# EAGLE library part SCM20100E (library sitcore)
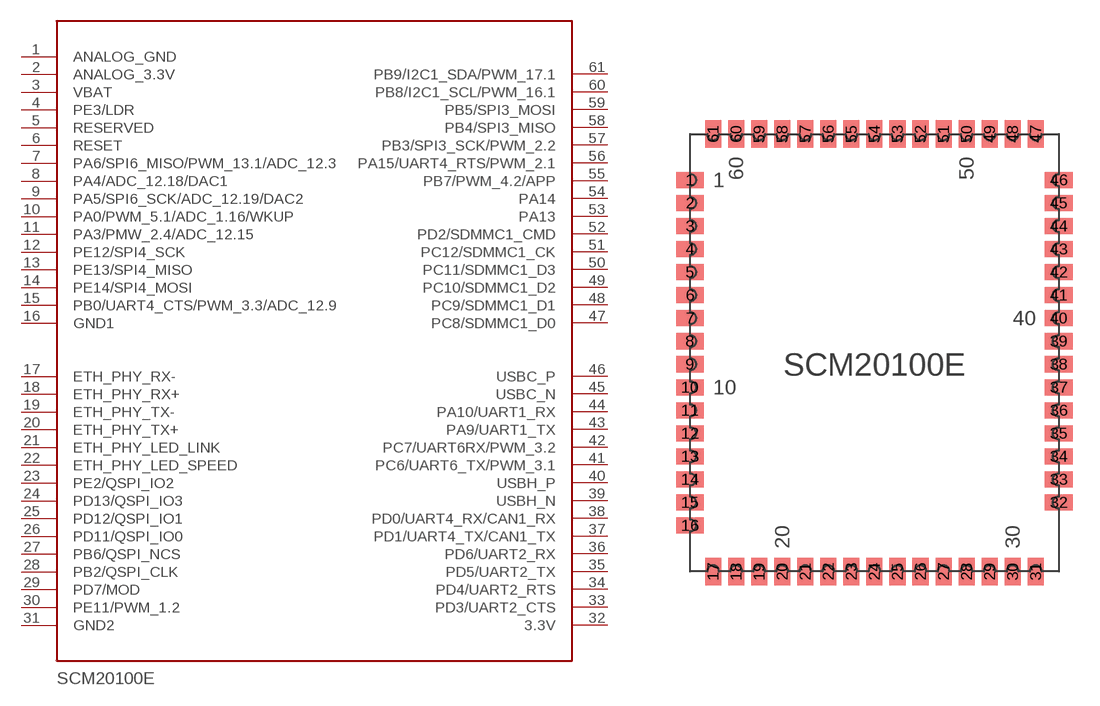
[diagram p0: symbol with the pads of SCM20100E; footprint SCM20100E]

Designator prefix -

## SCM20100E  [SCM20100E]
1  ANALOG_GND
2  ANALOG_3.3V
3  VBAT
4  PE3/LDR
5  RESERVED
6  RESET
7  PA6/SPI6_MISO/PWM_13.1/ADC_12.3
8  PA4/ADC_12.18/DAC1
9  PA5/SPI6_SCK/ADC_12.19/DAC2
10  PA0/PWM_5.1/ADC_1.16/WKUP
11  PA3/PMW_2.4/ADC_12.15
12  PE12/SPI4_SCK
13  PE13/SPI4_MISO
14  PE14/SPI4_MOSI
15  PB0/UART4_CTS/PWM_3.3/ADC_12.9
16  GND1
17  ETH_PHY_RX-
18  ETH_PHY_RX+
19  ETH_PHY_TX-
20  ETH_PHY_TX+
21  ETH_PHY_LED_LINK
22  ETH_PHY_LED_SPEED
23  PE2/QSPI_IO2
24  PD13/QSPI_IO3
25  PD12/QSPI_IO1
26  PD11/QSPI_IO0
27  PB6/QSPI_NCS
28  PB2/QSPI_CLK
29  PD7/MOD
30  PE11/PWM_1.2
31  GND2
32  3.3V
33  PD3/UART2_CTS
34  PD4/UART2_RTS
35  PD5/UART2_TX
36  PD6/UART2_RX
37  PD1/UART4_TX/CAN1_TX
38  PD0/UART4_RX/CAN1_RX
39  USBH_N
40  USBH_P
41  PC6/UART6_TX/PWM_3.1
42  PC7/UART6RX/PWM_3.2
43  PA9/UART1_TX
44  PA10/UART1_RX
45  USBC_N
46  USBC_P
47  PC8/SDMMC1_D0
48  PC9/SDMMC1_D1
49  PC10/SDMMC1_D2
50  PC11/SDMMC1_D3
51  PC12/SDMMC1_CK
52  PD2/SDMMC1_CMD
53  PA13
54  PA14
55  PB7/PWM_4.2/APP
56  PA15/UART4_RTS/PWM_2.1
57  PB3/SPI3_SCK/PWM_2.2
58  PB4/SPI3_MISO
59  PB5/SPI3_MOSI
60  PB8/I2C1_SCL/PWM_16.1
61  PB9/I2C1_SDA/PWM_17.1

## Footprint SCM20100E (pad centres in mm)
smd 1.524 x 0.889: 1 -10.16,10.16; 2 -10.16,8.89; 3 -10.16,7.62; 4 -10.16,6.35; 5 -10.16,5.08; 6 -10.16,3.81; 7 -10.16,2.54; 8 -10.16,1.27; 9 -10.16,0; 10 -10.16,-1.27; 11 -10.16,-2.54; 12 -10.16,-3.81; 13 -10.16,-5.08; 14 -10.16,-6.35; 15 -10.16,-7.62; 16 -10.16,-8.89; 32 10.16,-7.62; 33 10.16,-6.35; 34 10.16,-5.08; 35 10.16,-3.81; 36 10.16,-2.54; 37 10.16,-1.27; 38 10.16,0; 39 10.16,1.27; 40 10.16,2.54; 41 10.16,3.81; 42 10.16,5.08; 43 10.16,6.35; 44 10.16,7.62; 45 10.16,8.89; 46 10.16,10.16
smd 0.889 x 1.524: 17 -8.89,-11.43; 18 -7.62,-11.43; 19 -6.35,-11.43; 20 -5.08,-11.43; 21 -3.81,-11.43; 22 -2.54,-11.43; 23 -1.27,-11.43; 24 0,-11.43; 25 1.27,-11.43; 26 2.54,-11.43; 27 3.81,-11.43; 28 5.08,-11.43; 29 6.35,-11.43; 30 7.62,-11.43; 31 8.89,-11.43; 47 8.89,12.7; 48 7.62,12.7; 49 6.35,12.7; 50 5.08,12.7; 51 3.81,12.7; 52 2.54,12.7; 53 1.27,12.7; 54 0,12.7; 55 -1.27,12.7; 56 -2.54,12.7; 57 -3.81,12.7; 58 -5.08,12.7; 59 -6.35,12.7; 60 -7.62,12.7; 61 -8.89,12.7